# EAGLE library part AD5241BRU1M-REEL7 (library elements)
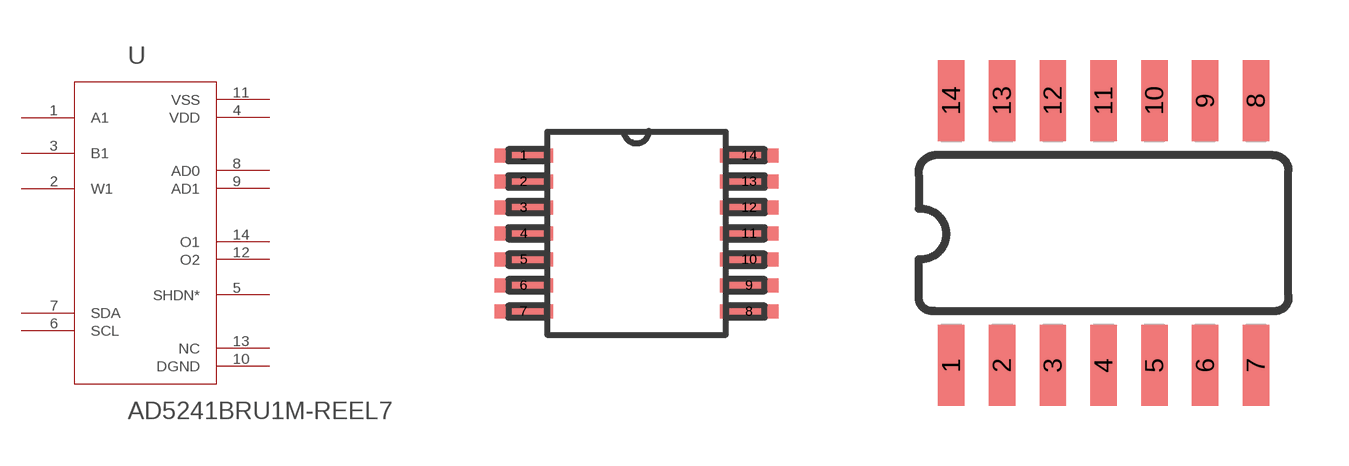
[diagram p0: symbol with the pads of RU_14; footprints RU_14, SOIC-14]

Designator prefix U

## AD5241BRU1M-REEL7AD5241BRZ1M-REEL7 (MANUFACTURER_PART_NUMBER: AD5241BRU1M; VENDOR: Vendor)  [RU_14]
1  A1  pas
2  W1  pas
3  B1  pas
4  VDD  pwr
5  SHDN*  pas
6  SCL  pas
7  SDA  pas
8  AD0  pas
9  AD1  pas
10  DGND  pas
11  VSS  pwr
12  O2  pas
13  NC  pas
14  O1  pas

## AD5241BRU1M-REEL7AD5241BRZ1M  [SOIC-14]
Pads as for RU_14

## Footprint RU_14 (pad centres in mm)
smd 1.473 x 0.356: 1 -2.819,1.95; 2 -2.819,1.3; 3 -2.819,0.65; 4 -2.819,0; 5 -2.819,-0.65; 6 -2.819,-1.3; 7 -2.819,-1.95; 8 2.819,-1.95; 9 2.819,-1.3; 10 2.819,-0.65; 11 2.819,0; 12 2.819,0.65; 13 2.819,1.3; 14 2.819,1.95

## Footprint SOIC-14 (pad centres in mm)
smd 0.66 x 2.032: 1 -4.445,-3.315; 2 -3.175,-3.315; 3 -1.905,-3.315; 4 -0.635,-3.315; 5 0.635,-3.315; 6 1.905,-3.315; 7 3.175,-3.315; 8 3.175,3.315; 9 1.905,3.315; 10 0.635,3.315; 11 -0.635,3.315; 12 -1.905,3.315; 13 -3.175,3.315; 14 -4.445,3.315